# Altium footprint library Main.PcbLib: 56 footprints (part 1 of 4)
Each footprint in its own frame and in the unit in brackets; x right, y up, seen from the top. Pads: shape width x height; smd on the part's side, far side on the other; paste and mask are expansions set on the pad; w line width, h text height; cw(c..) or ccw(c..) is an arc to the next point about the centre after c.
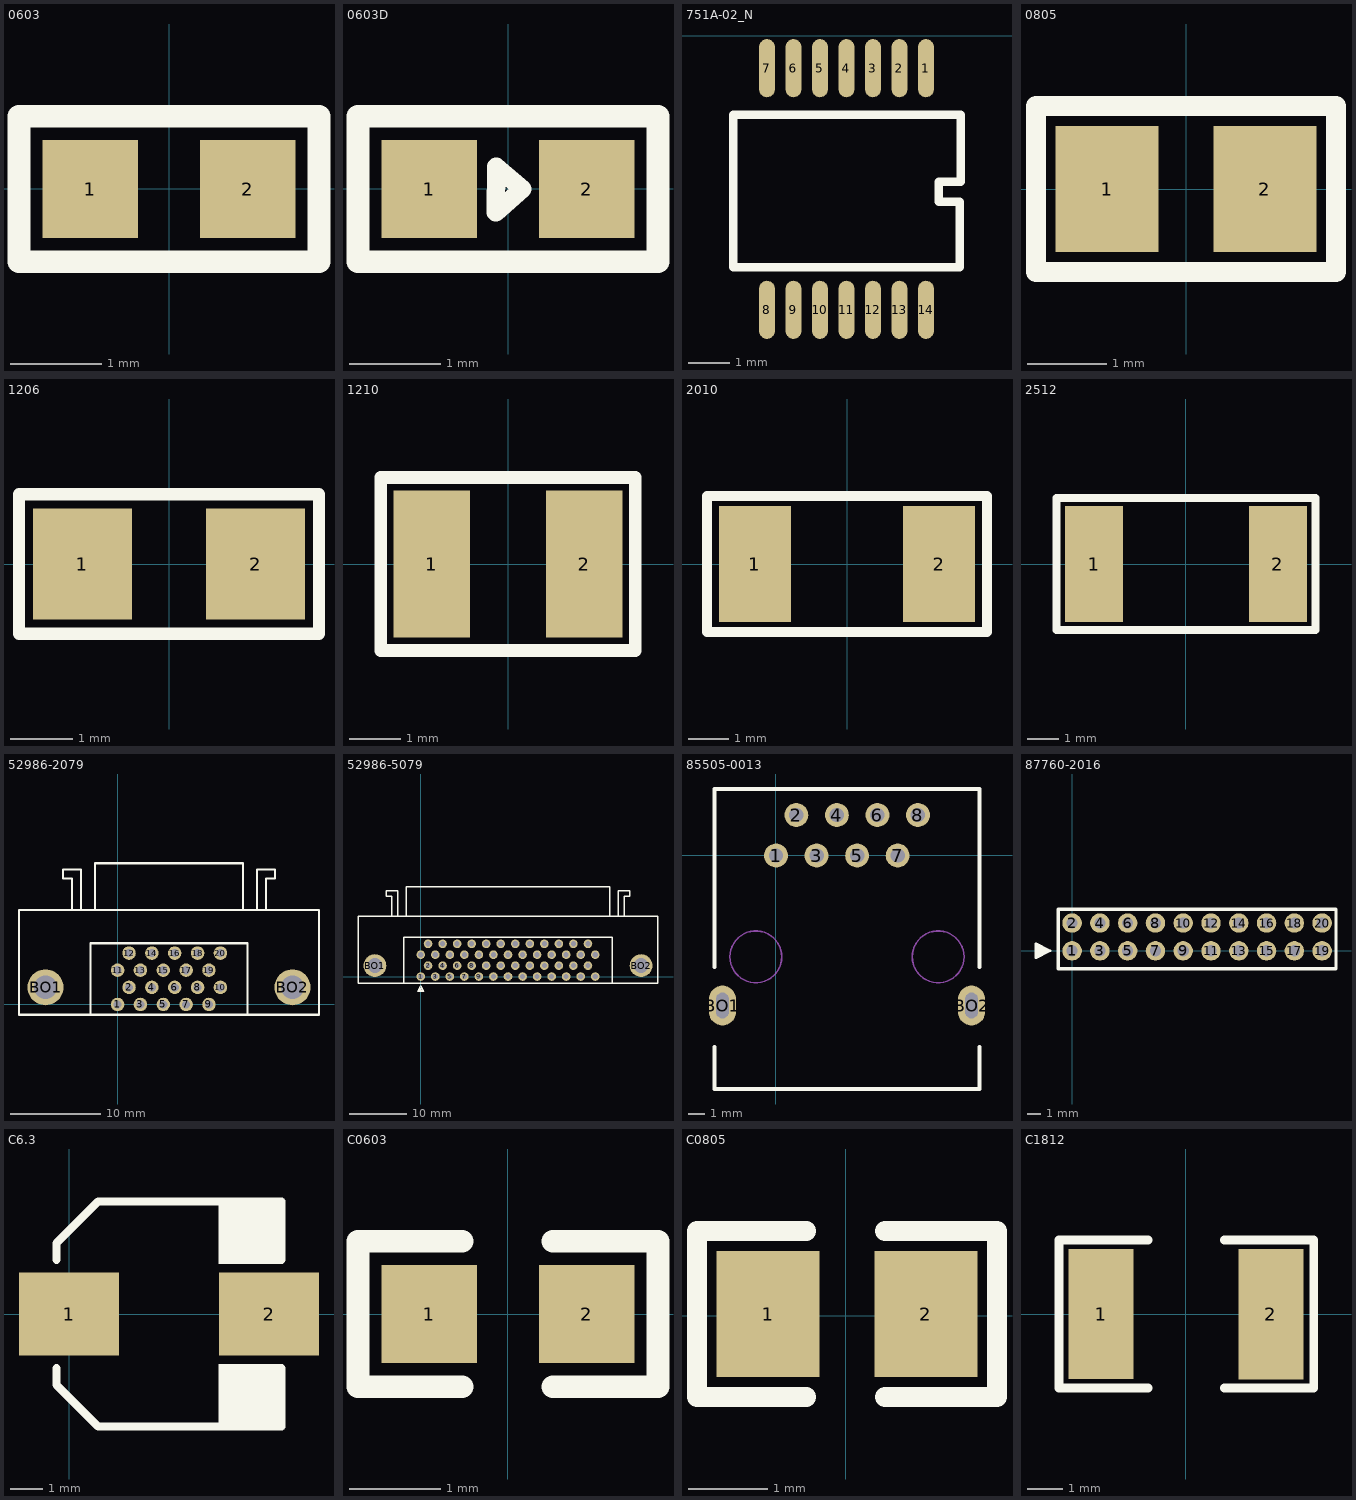
[diagram p0: the footprints below, top view; thin cyan lines are the x and y axes]

## 0603 [mm]
height 1.1
pads (2):
  rect 1.05x1.08 smd: 1(-0.865,0) 2(0.865,0)
Top Overlay:
  lines w0.25: -1.65,-0.8 1.65,-0.8 1.65,0.8 -1.65,0.8 -1.65,-0.8

## 0603D [mm]
height 1.1
pads (2):
  rect 1.05x1.08 smd: 1(-0.865,0) 2(0.865,0)
Top Overlay:
  lines w0.203: -0.136,-0.256 -0.131,0.245 0.16,0 -0.136,-0.256
  lines w0.25: -1.65,-0.8 1.65,-0.8 1.65,0.8 -1.65,0.8 -1.65,-0.8

## 751A-02_N [mil]
pads (14):
  oval 15x55 smd: 1(235.6,-30.48) 2(210.6,-30.48) 3(185.6,-30.48) 4(160.6,-30.48) 5(135.6,-30.48) 6(110.6,-30.48) 7(85.6,-30.48) 8(85.6,-258.48) 9(110.6,-258.48) 10(135.6,-258.48) 11(160.6,-258.48) 12(185.6,-258.48) 13(210.6,-258.48) 14(235.6,-258.48)
Top Overlay:
  lines w8: 53.6,-218.48 53.6,-74.48 268.6,-74.48 268.6,-137.48 247.6,-137.48 247.6,-156.48 267.6,-156.48 267.6,-218.48 53.6,-218.48

## 0805 [mm]
height 1.1
pads (2):
  rect 1.3x1.6 smd: 1(-1,0) 2(1,0)
Top Overlay:
  lines w0.25: -1.9,-1.05 -1.9,1.05 1.9,1.05 1.9,-1.05 -1.9,-1.05

## 1206 [mm] "Chip Resistor; Body 3.2x1.6mm"
height 1.35
pads (2):
  rect 1.6x1.8 smd: 1(-1.4,0) 2(1.4,0)
Top Overlay:
  lines w0.2: -2.425,-1.125 -2.425,1.125 2.425,1.125 2.425,-1.125 -2.425,-1.125

## 1210 [mm]
height 1.1
pads (2):
  rect 1.5x2.9 smd: 1(-1.5,0) 2(1.5,0)
Top Overlay:
  lines w0.25: -2.5,-1.7 -2.5,1.7 2.5,1.7 2.5,-1.7 -2.5,-1.7

## 2010 [mm]
height 1.1
pads (2):
  rect 1.8x2.9 smd: 1(-2.3,0) 2(2.3,0)
Top Overlay:
  lines w0.25: -3.5,-1.7 3.5,-1.7 3.5,1.7 -3.5,1.7 -3.5,-1.7

## 2512 [mm]
height 1.2
pads (2):
  rect 1.85x3.7 smd: 1(-2.913,0.006) 2(2.937,0.006)
Top Overlay:
  lines w0.25: -4.113,-2.094 4.137,-2.094 4.137,2.106 -4.113,2.106 -4.113,-2.094

## 52986-2079 [mm]
height 1.1
pads (22):
  round 1.5 hole 0.9: 1(-0.008,-0.007) 2(1.262,1.898) 3(2.532,-0.007) 4(3.802,1.898) 5(5.072,-0.007) 6(6.342,1.898) 7(7.612,-0.007) 8(8.882,1.898) 9(10.152,-0.007) 10(11.422,1.898) 11(-0.008,3.803) 12(1.262,5.708) 13(2.532,3.803) 14(3.802,5.708) 15(5.072,3.803) 16(6.342,5.708) 17(7.612,3.803) 18(8.882,5.708) 19(10.152,3.803) 20(11.422,5.708)
  round 4 hole 2.6: BO1(-8.018,1.898) BO2(19.432,1.898)
Top Overlay:
  lines w0.25: -5.068,10.498 -5.068,13.998 -6.068,13.998 -6.068,14.998 -4.068,14.998 -4.068,10.498 ; -3.018,-1.152 -3.018,6.808 14.432,6.808 14.432,-1.152 ; -2.508,10.498 -2.508,15.698 13.922,15.698 13.922,10.498 ; 15.482,10.498 15.482,14.998 17.482,14.998 17.482,13.998 16.482,13.998 16.482,10.498 ; -10.968,-1.152 -10.968,10.498 22.382,10.498 22.382,-1.152 -10.968,-1.152
Bottom Overlay:
  text "20" at 14.04,5.29 h0.8
  text "19" at 13.115,3.435 h0.8
  text "10" at 14.04,1.445 h0.8
  text "9" at 12.495,-0.475 h0.8
  text "12" at -0.375,5.29 h0.8
  text "11" at -1.265,3.435 h0.8
  text "2" at -0.34,1.55 h0.8
  text "1" at -1.645,-0.375 h0.8

## 52986-5079 [mm]
height 1.1
pads (52):
  round 1.5 hole 0.9: 1(-0.008,0.011) 2(1.262,1.916) 3(2.532,0.011) 4(3.802,1.916) 5(5.072,0.011) 6(6.342,1.916) 7(7.612,0.011) 8(8.882,1.916) 9(10.152,0.011) 10(11.422,1.916) 11(12.692,0.011) 12(13.962,1.916) 13(15.232,0.011) 14(16.502,1.916) 15(17.772,0.011) 16(19.042,1.916) 17(20.312,0.011) 18(21.582,1.916) 19(22.852,0.011) 20(24.122,1.916) 21(25.392,0.011) 22(26.662,1.916) 23(27.932,0.011) 24(29.202,1.916) 25(30.472,0.011) 26(-0.008,3.821) 27(1.262,5.726) 28(2.532,3.821) 29(3.802,5.726) 30(5.072,3.821) 31(6.342,5.726) 32(7.612,3.821) 33(8.882,5.726) 34(10.152,3.821) 35(11.422,5.726) 36(12.692,3.821) 37(13.962,5.726) 38(15.232,3.821) 39(16.502,5.726) 40(17.772,3.821) 41(19.042,5.726) 42(20.312,3.821) 43(21.582,5.726) 44(22.852,3.821) 45(24.122,5.726) 46(25.392,3.821) 47(26.662,5.726) 48(27.932,3.821) 49(29.202,5.726) 50(30.472,3.821)
  round 4 hole 2.6: BO1(-8.018,1.916) BO2(38.482,1.916)
Top Overlay:
  lines w0.2: -0.008,-2.364 -0.008,-2.139 ; -0.508,-2.589 -0.008,-1.589 0.492,-2.589 -0.508,-2.589 ; -0.358,-2.489 -0.008,-1.814 0.342,-2.489 -0.358,-2.489 ; -0.183,-2.389 -0.008,-2.039 0.167,-2.389 -0.183,-2.389
  lines w0.25: -5.068,10.516 -5.068,14.016 -6.068,14.016 -6.068,15.016 -4.068,15.016 -4.068,10.516 ; -3.018,-1.134 -3.018,6.826 33.482,6.826 33.482,-1.134 ; -2.508,10.516 -2.508,15.716 32.972,15.716 32.972,10.516 ; 34.532,10.516 34.532,15.016 36.532,15.016 36.532,14.016 35.532,14.016 35.532,10.516 ; -10.968,-1.134 41.432,-1.134 41.432,10.516 -10.968,10.516 -10.968,-1.134
Bottom Overlay:
  text "1" at -1.45,-0.43 h0.8
  text "2" at -0.43,1.56 h0.8
  text "26" at -1.29,3.39 h0.8
  text "27" at -0.375,5.325 h0.8
  text "24" at 31.97,1.56 h0.8
  text "25" at 33.235,-0.405 h0.8
  text "49" at 32.185,5.35 h0.8
  text "50" at 32.995,3.415 h0.8

## 85505-0013 [mm]
height 1.1
pads (10):
  round 1.5 hole 0.9: 1(0.008,-0.013) 2(1.278,2.527) 3(2.548,-0.013) 4(3.818,2.527) 5(5.088,-0.013) 6(6.358,2.527) 7(7.628,-0.013) 8(8.898,2.527)
  oval 1.7x2.5 hole 0.8 slot 1.6 at 90 deg: BO1(-3.352,-9.413) BO2(12.258,-9.413)
Top Overlay:
  lines w0.25: -3.847,-12.013 -3.847,-14.643 12.753,-14.643 12.753,-12.013 ; -3.847,-7.013 -3.847,4.157 12.753,4.157 12.753,-7.013
Bottom Overlay:
  text "8" at 10.49,2.94 h0.8
  text "7" at 9.83,0.365 h0.8
  text "2" at -1.695,2.87 h0.8
  text "1" at -1.67,0.245 h0.8
Mechanical 1:
  circle w0.1: c10.168,-6.363 r1.625
  circle w0.1: c-1.262,-6.363 r1.625

## 87760-2016 [mm]
height 1.1
pads (20):
  round 1.4 hole 0.8: 1(0,0) 2(0,2) 3(2,0) 4(2,2) 5(4,0) 6(4,2) 7(6,0) 8(6,2) 9(8,0) 10(8,2) 11(10,0) 12(10,2) 13(12,0) 14(12,2) 15(14,0) 16(14,2) 17(16,0) 18(16,2) 19(18,0) 20(18,2)
Top Overlay:
  lines w0.2: -2.375,0 -2.15,0 ; -2.6,-0.5 -2.6,0.5 -1.6,0 -2.6,-0.5 ; -2.5,-0.35 -2.5,0.35 -1.825,0 -2.5,-0.35 ; -2.4,-0.175 -2.4,0.175 -2.05,0 -2.4,-0.175
  lines w0.25: -1,-1.3 19,-1.3 19,3 -1,3 -1,-1.3

## C6.3 [mil]
height 43.31
pads (2):
  rect 120x100 smd: 1(0,0) 2(240,0)
Top Overlay:
  region: 254.25,-59.99 179.25,-59.99 179.25,-134.99 254.25,-134.99
  region: 254.25,135 179.25,135 179.25,60 254.25,60
  lines w10: -15,-65 -15,-85 35,-135 255,-135 255,-65 ; -15,65 -15,85 35,135 255,135 255,65

## C0603 [mm]
height 1.1
pads (2):
  rect 1.05x1.08 smd: 1(-0.86,0.005) 2(0.87,0.005)
Top Overlay:
  lines w0.25: -0.5,-0.795 -1.645,-0.795 -1.645,0.805 -0.5,0.805 ; 0.5,-0.795 1.655,-0.795 1.655,0.805 0.5,0.805

## C0805 [mm]
height 1.1
pads (2):
  rect 1.3x1.6 smd: 1(-0.982,0.021) 2(1.018,0.021)
Top Overlay:
  lines w0.25: -0.5,-1.029 -1.882,-1.029 -1.882,1.071 -0.5,1.071 ; 0.5,-1.029 1.918,-1.029 1.918,1.071 0.5,1.071

## C1812 [mm]
height 1.2
pads (2):
  rect 1.85x3.7 smd: 1(-2.405,0.006) 2(2.413,0)
Top Overlay:
  lines w0.25: -1.07,-2.094 -3.605,-2.094 -3.605,2.106 -1.07,2.106 ; 1.094,-2.094 3.629,-2.094 3.629,2.106 1.094,2.106